# EAGLE library part WE-LAN_10/100_BASETX_749013040 (library Wuerth_Elektronik_eiSos_Version_6-12)
LAN-Transformer WE-LAN 10/100 Base Tx - Compliant with IEEE 802.3 standards - SMD -- Ethernet -- Power over Ethernet -- 1 Gigabit Ethernet -- Compliant with most IC's for ethernet applications like Intel, AMD, Globespan and Realtek -- Hub, Router, Switch
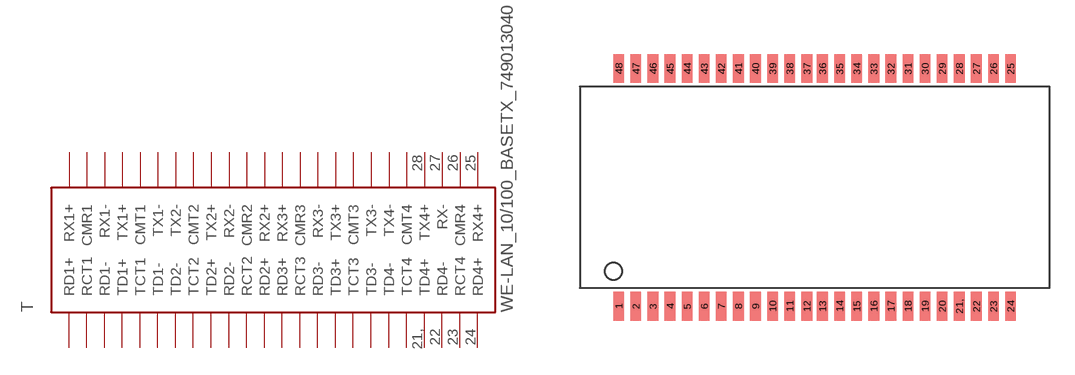
[diagram p24: symbol with the pads of WE-LAN_10/100_BASETX_749013040; footprint WE-LAN_10/100_BASETX_749013040]

Designator prefix T

## WE-LAN_10/100_BASETX_749013040  [WE-LAN_10/100_BASETX_749013040]
1  RD1+  pas
2  RCT1  pas
3  RD1-  pas
4  TD1+  pas
5  TCT1  pas
6  TD1-  pas
7  TD2+  pas
8  TCT2  pas
9  TD2-  pas
10  RD2-  pas
11  RCT2  pas
12  RD2+  pas
13  RD3+  pas
14  RCT3  pas
15  RD3-  pas
16  TD3+  pas
17  TCT3  pas
18  TD3-  pas
19  TD4-  pas
20  TCT4  pas
21,  TD4+  pas
22  RD4-  pas
23  RCT4  pas
24  RD4+  pas
25  RX4+  pas
26  CMR4  pas
27  RX-  pas
28  TX4+  pas
29  CMT4  pas
30  TX4-  pas
31  TX3-  pas
32  CMT3  pas
33  TX3+  pas
34  RX3-  pas
35  CMR3  pas
36  RX3+  pas
37  RX2+  pas
38  CMR2  pas
39  RX2-  pas
40  TX2+  pas
41  CMT2  pas
42  TX2-  pas
43  TX1-  pas
44  CMT1  pas
45  TX1+  pas
46  RX1-  pas
47  CMR1  pas
48  RX1+  pas

## Footprint WE-LAN_10/100_BASETX_749013040 (pad centres in mm)
WE-LAN 10/100 BaseTx
smd 0.64 x 1.715: 1 -11.685,-7.082; 2 -10.665,-7.082; 3 -9.645,-7.082; 4 -8.625,-7.082; 5 -7.605,-7.082; 6 -6.585,-7.082; 7 -5.567,-7.082; 8 -4.547,-7.082; 9 -3.527,-7.082; 10 -2.507,-7.082; 11 -1.487,-7.082; 12 -0.467,-7.082; 13 0.467,-7.082; 14 1.487,-7.082; 15 2.507,-7.082; 16 3.527,-7.082; 17 4.547,-7.082; 18 5.567,-7.082; 19 6.585,-7.082; 20 7.605,-7.082; 21, 8.625,-7.082; 22 9.645,-7.082; 23 10.665,-7.082; 24 11.685,-7.082; 25 11.685,7.082; 26 10.665,7.082; 27 9.645,7.082; 28 8.625,7.082; 29 7.605,7.082; 30 6.585,7.082; 31 5.567,7.082; 32 4.547,7.082; 33 3.527,7.082; 34 2.507,7.082; 35 1.487,7.082; 36 0.467,7.082; 37 -0.467,7.082; 38 -1.487,7.082; 39 -2.507,7.082; 40 -3.527,7.082; 41 -4.547,7.082; 42 -5.567,7.082; 43 -6.585,7.082; 44 -7.605,7.082; 45 -8.625,7.082; 46 -9.645,7.082; 47 -10.665,7.082; 48 -11.685,7.082